# EAGLE library part INVERTER_74HC04 (library Chao)
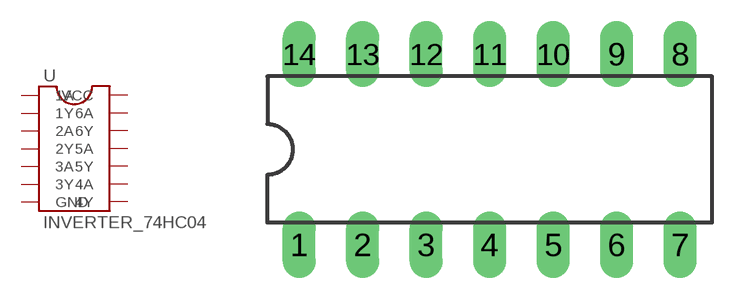
[diagram p1: symbol with the pads of 14PIN_IC; footprint 14PIN_IC]

Designator prefix -

## INVERTER_74HC04  [14PIN_IC]
1  1A  pas
2  1Y  out
3  2A  pas
4  2Y  out
5  3A  pas
6  3Y  out
7  GND  pas
8  4Y  out
9  4A  pas
10  5Y  out
11  5A  pas
12  6Y  out
13  6A  pas
14  VCC  pwr

## Footprint 14PIN_IC (pad centres in mm)
drill 0.813 long: 1 -7.62,-3.81; 2 -5.08,-3.81; 3 -2.54,-3.81; 4 0,-3.81; 5 2.54,-3.81; 6 5.08,-3.81; 7 7.62,-3.81; 8 7.62,3.81; 9 5.08,3.81; 10 2.54,3.81; 11 0,3.81; 12 -2.54,3.81; 13 -5.08,3.81; 14 -7.62,3.81